# Altium integrated library Analog Devices Clock Generation and Distribution.IntLib: 120 symbols (part 11 of 18)
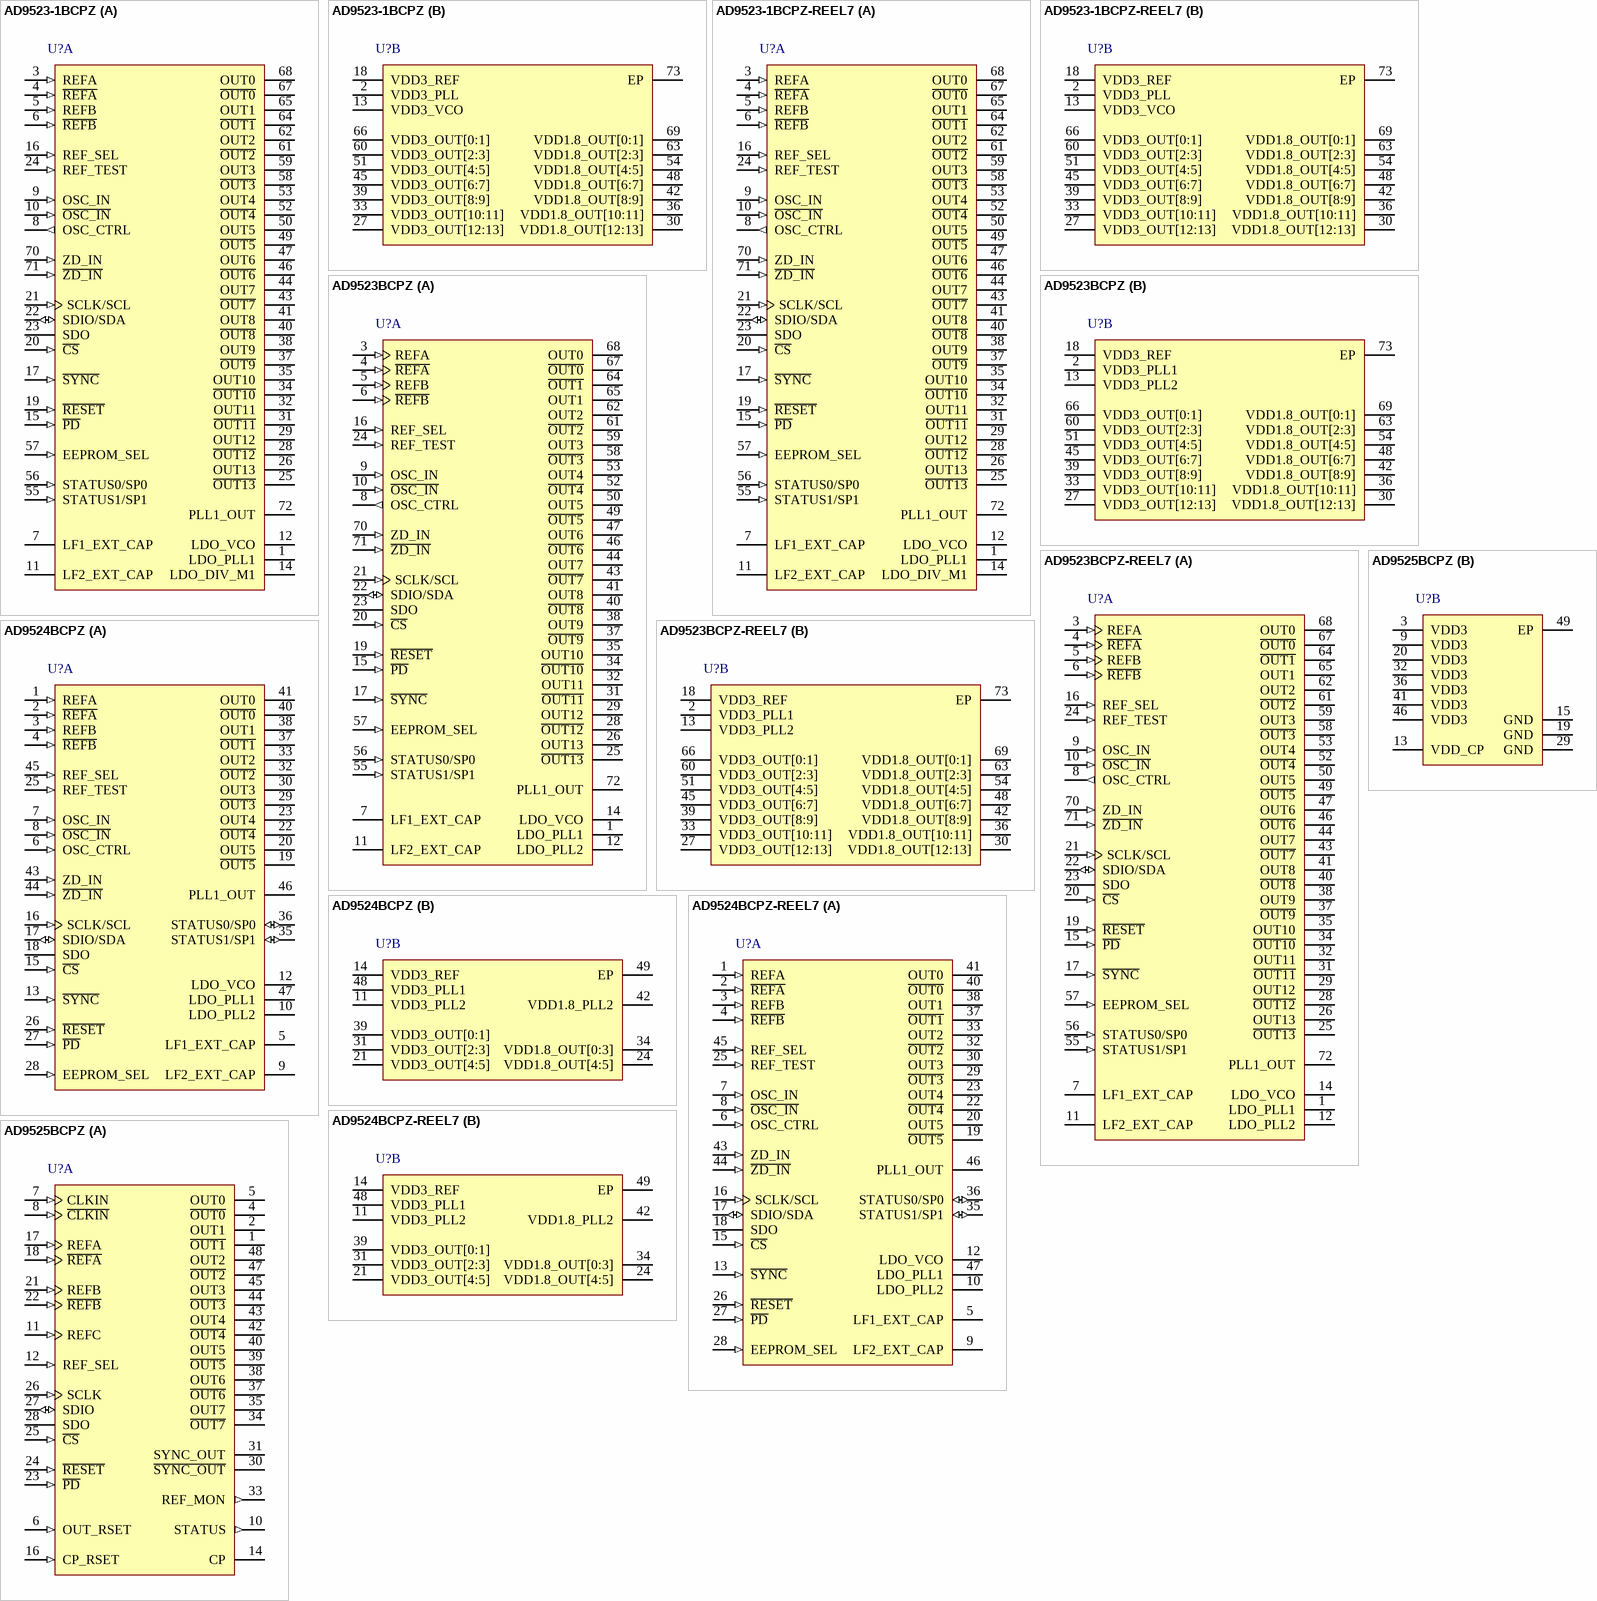
[diagram p22: symbols AD9523-1BCPZ to AD9525BCPZ]

## AD9523-1BCPZ-REEL7
designator U?
14 LVPECL / LVDS / HSTL / 29 LVCMOS Outputs, Low Jitter Clock Generator, 3.3 V Supply, Industrial, 72-pin QFN (CP-72-7), Reel; Manufacturer: Analog Devices; PartNumber: AD9523-1BCPZ-REEL7; # of Inputs: 1; # of Outputs: 29; Supply Voltage (V): 3.3; I/O Interface: Serial; Max f-out: 1 GHz; On-Chip VCO or DCO: Yes; Output Logic: LVCMOS, HSTL, LVDS, LVPECL; DatasheetVersion: Rev. B; PackageVersion: 052809-A, 09/2009; PackageReference: CP-72-7; PackageDescription: 72-Pin Lead Frame Chip Scale Package, Body 10 x 10 mm, Pitch 0.5 mm; Supplier 1: Digi-Key; Supplier Part Number 1: AD9523-1BCPZ-REEL7-ND; Supplier 2: Newark; Supplier Part Number 2: 18T2175; Supplier 3: Mouser; Supplier Part Number 3: 584-AD95231BCPZR7; Packing: Reel; Mounting Technology: Surface Mount; Code_JEDEC: MO-220-VNND-4; ComponentLink1Description: Manufacturer URL; ComponentLink1URL: http://www.analog.com/en/index.html; ComponentLink2Description: Datasheet; ComponentLink2URL: http://www.analog.com/static/imported-files/data_sheets/AD9523-1.pdf; ComponentLink3Description: Package Specification; ComponentLink3URL: http://www.analog.com/static/imported-files/packages/PKG_PDF/LFCSP(CP)/CP_72_7.pdf; ComponentLink4Description: Product URL; ComponentLink4URL: http://www.analog.com/en/clock-and-timing/clock-generation-and-distribution/ad9523-1/products/product.html
footprint ADI-CP-72-7_N (QFN, 72-Leads, Body 10x10mm, Pitch 0.5mm, Thermal Pad 6x6mm, IPC Medium Density)
footprint ADI-CP-72-7_L (QFN, 72-Leads, Body 10x10mm, Pitch 0.5mm, Thermal Pad 6x6mm, IPC High Density)
footprint ADI-CP-72-7_M (QFN, 72-Leads, Body 10x10mm, Pitch 0.5mm, Thermal Pad 6x6mm, IPC Low Density)
part A pins: 1 LDO_PLL1 "1.8 V Internal LDO Regulator Decoupling Pin for PLL1. Connect a 0.47 uF decoupling capacitor from this pin to ground. Note that for best performance, the LDO bypass capacitor must be placed in close proximity to the device.", 3 REFA (in) "Reference Clock Input A. Along with R\E\F\A\, this pin is the differential input for the PLL reference. Alternatively, this pin can be programmed as a single-ended 3.3 V CMOS input.", 4 ~{REFA} (in) "Complementary Reference Clock Input A. Along with REFA, this pin is the differential input for the PLL reference. Alternatively, this pin can be programmed as a single-ended 3.3V CMOS input.", 5 REFB (in) "Reference Clock Input B. Along with R\E\F\B\, this pin is the differential input for the PLL reference. Alternatively, this pin can be programmed as a single-ended 3.3 V CMOS input.", 6 ~{REFB} (in) "Complementary Reference Clock Input B. Along with REFB, this pin is the differential input for the PLL reference. Alternatively, this pin can be programmed as a single-ended 3.3 V CMOS input.", 7 LF1_EXT_CAP "PLL1 External Loop Filter Capacitor. Connect this pin to ground.", 8 OSC_CTRL (out) "Oscillator Control Voltage. Connect this pin to the voltage control pin of the external oscillator.", 9 OSC_IN (in) "PLL1 Oscillator Input. Along with O\S\C\_\I\N\, this pin is the differential input for the PLL reference. Alternatively, this pin can be programmed as a single-ended 3.3 V CMOS input.", 10 ~{OSC_IN} (in) "Complementary PLL1 Oscillator Input. Along with OSC_IN, this pin is the differential input for the PLL reference. Alternatively, this pin can be programmed as a single-ended 3.3 V CMOS input.", 11 LF2_EXT_CAP "PLL2 External Loop Filter Capacitor Connection. Connect capacitor to this pin and the LDO_VCO pin.", 12 LDO_VCO "2.5 V LDO Internal Regulator Decoupling Pin for VCO. Connect a 0.47 uF decoupling capacitor from this pin to ground. Note that, for best performance, the LDO bypass capacitor must be placed in close proximity to the device.", 14 LDO_DIV_M1 "1.8 V LDO Regulator Decoupling Pin for VCO Divider M1. Connect a 0.47 uF decoupling capacitor from this pin to ground. Note that, for best performance, the LDO bypass capacitor must be placed in close proximity to the device.", 15 ~{PD} (in) "Chip Power-Down, Active Low. This pin has an internal 40 K ohm pull-up resistor.", 16 REF_SEL (in) "Reference Input Select. This pin has an internal 40 K ohm pull-down resistor.", 17 ~{SYNC} (in) "Manual Synchronization. This pin initiates a manual synchronization and has an internal 40 K ohm pull-up resistor.", 19 ~{RESET} (in) "Digital Input, Active Low. Resets internal logic to default states. This pin has an internal 40 K ohm pull-up resistor.", 20 ~{CS} (in) "Serial Control Port Chip Select, Active Low. This pin has an internal 40 K ohm pull-up resistor.", 21 SCLK/SCL (in) "Serial Control Port Clock Signal for SPI Mode (SCLK) or I2C Mode (SCL). Data clock for serial program-ming. This pin has an internal 40 K ohm pull-down resistor in SPI mode but is high impedance in I2C mode.", 22 SDIO/SDA (io) "Serial Control Port Bidirectional Serial Data In/Data Out for SPI Mode (SDIO) or I2C Mode (SDA).", 23 SDO (hiz) "Serial Data Output. Use this pin to read data in 4-wire mode (high impedance in 3-wire mode). There is no internal pull-up/pull-down resistor on this pin.", 24 REF_TEST (in) "Test Input to PLL1 Phase Detector.", 25 ~{OUT13} (hiz) "Complementary Square Wave Clocking Output 13. This pin can be configured as one side of a differential LVPECL/LVDS/HSTL output or as a single-ended CMOS output.", 26 OUT13 (hiz) "Square Wave Clocking Output 13. This pin can be configured as one side of a differential LVPECL/ LVDS/HSTL output or as a single-ended CMOS output.", 28 ~{OUT12} (hiz) "Complementary Square Wave Clocking Output 12. This pin can be configured as one side of a differential LVPECL/LVDS/HSTL output or as a single-ended CMOS output.", 29 OUT12 (hiz) "Square Wave Clocking Output 12. This pin can be configured as one side of a differential LVPECL/ LVDS/HSTL output or as a single-ended CMOS output.", 31 ~{OUT11} (hiz) "Complementary Square Wave Clocking Output 11. This pin can be configured as one side of a differential LVPECL/LVDS/HSTL output or as a single-ended CMOS output.", 32 OUT11 (hiz) "Square Wave Clocking Output 11. This pin can be configured as one side of a differential LVPECL/ LVDS/HSTL output or as a single-ended CMOS output.", 34 ~{OUT10} (hiz) "Complementary Square Wave Clocking Output 10. This pin can be configured as one side of a differential LVPECL/LVDS/HSTL output or as a single-ended CMOS output.", 35 OUT10 (hiz) "Square Wave Clocking Output 10. This pin can be configured as one side of a differential LVPECL/ LVDS/HSTL output or as a single-ended CMOS output.", 37 ~{OUT9} (hiz) "Complementary Square Wave Clocking Output 9. This pin can be configured as one side of a differential LVPECL/LVDS/HSTL output or as a single-ended CMOS output.", 38 OUT9 (hiz) "Square Wave Clocking Output 9. This pin can be configured as one side of a differential LVPECL/ LVDS/HSTL output or as a single-ended CMOS output.", 40 ~{OUT8} (hiz) "Complementary Square Wave Clocking Output 8. This pin can be configured as one side of a differential LVPECL/LVDS/HSTL output or as a single-ended CMOS output.", 41 OUT8 (hiz) "Square Wave Clocking Output 8. This pin can be configured as one side of a differential LVPECL/ LVDS/HSTL output or as a single-ended CMOS output.", 43 ~{OUT7} (hiz) "Complementary Square Wave Clocking Output 7. This pin can be configured as one side of a differential LVPECL/LVDS/HSTL output or as a single-ended CMOS output.", 44 OUT7 (hiz) "Square Wave Clocking Output 7. This pin can be configured as one side of a differential LVPECL/ LVDS/HSTL output or as a single-ended CMOS output.", 46 ~{OUT6} (hiz) "Complementary Square Wave Clocking Output 6. This pin can be configured as one side of a differential LVPECL/LVDS/HSTL output or as a single-ended CMOS output.", 47 OUT6 (hiz) "Square Wave Clocking Output 6. This pin can be configured as one side of a differential LVPECL/ LVDS/HSTL output or as a single-ended CMOS output.", 49 ~{OUT5} (hiz) "Complementary Square Wave Clocking Output 5. This pin can be configured as one side of a differential LVPECL/LVDS/HSTL output or as a single-ended CMOS output.", 50 OUT5 (hiz) "Square Wave Clocking Output 5. This pin can be configured as one side of a differential LVPECL/ LVDS/HSTL output or as a single-ended CMOS output.", 52 ~{OUT4} (hiz) "Complementary Square Wave Clocking Output 4. This pin can be configured as one side of a differential LVPECL/LVDS/HSTL output or as a single-ended CMOS output.", 53 OUT4 (hiz) "Square Wave Clocking Output 4. This pin can be configured as one side of a differential LVPECL/ LVDS/HSTL output or as a single-ended CMOS output.", 55 STATUS1/SP1 (in) "Lock Detect and Other Status Signals (STATUS1)/I2C Address (SP1). This pin has an internal 40 K ohm pull-down resistor.", 56 STATUS0/SP0 (in) "Lock Detect and Other Status Signals (STATUS0)/I2C Address (SP0). This pin has an internal 40 K ohm pull-down resistor.", 57 EEPROM_SEL (in) "EEPROM Select. Setting this pin high selects the register values stored in the internal EEPROM to be loaded at reset and/or power-up. Setting this pin low causes the AD9523-1 to load the hard-coded default register values at power-up/reset. This pin has", 58 ~{OUT3} (hiz) "Complementary Square Wave Clocking Output 3. This pin can be configured as one side of a differential LVPECL/LVDS/HSTL output or as a single-ended CMOS output.", 59 OUT3 (hiz) "Square Wave Clocking Output 3. This pin can be configured as one side of a differential LVPECL/ LVDS/HSTL output or as a single-ended CMOS output.", 61 ~{OUT2} (hiz) "Complementary Square Wave Clocking Output 2. This pin can be configured as one side of a differential LVPECL/LVDS/HSTL output or as a single-ended CMOS output.", 62 OUT2 (hiz) "Square Wave Clocking Output 2. This pin can be configured as one side of a differential LVPECL/ LVDS/HSTL output or as a single-ended CMOS output.", 64 ~{OUT1} (hiz) "Complementary Square Wave Clocking Output 1. This pin can be configured as one side of a differential LVPECL/LVDS/HSTL output or as a single-ended CMOS output.", 65 OUT1 (hiz) "Square Wave Clocking Output 1. This pin can be configured as one side of a differential LVPECL/ LVDS/HSTL output or as a single-ended CMOS output.", 67 ~{OUT0} (hiz) "Complementary Square Wave Clocking Output 0. This pin can be configured as one side of a differential LVPECL/LVDS/HSTL output or as a single-ended CMOS output.", 68 OUT0 (hiz) "Square Wave Clocking Output 0. This pin can be configured as one side of a differential LVPECL/ LVDS/HSTL output or as a single-ended CMOS output.", 70 ZD_IN (in) "External Zero Delay Clock Input. Along with Z\D\_\I\N\, this pin is the differential input for the PLL reference. Alternatively, this pin can be programmed as a single-ended 3.3 V CMOS input.", 71 ~{ZD_IN} (in) "Complementary External Zero Delay Clock Input. Along with ZD_IN, this pin is the differential input for the PLL reference. Alternatively, this pin can be programmed as a single-ended 3.3 V CMOS input.", 72 PLL1_OUT (hiz) "Single-Ended CMOS Output from PLL1. This pin has settings for weak and strong in Register 0x1BA, Bit 4 (see Table 52)."
part B pins: 2 VDD3_PLL (power) "3.3 V Supply PLL1 and PLL2. Use the same supply as VCXO.", 13 VDD3_VCO (power) "3.3 V Supply for VCO and VCO M1 Divider.", 18 VDD3_REF (power) "3.3 V Supply for Output Clock Drivers Reference and VCO Divider M2.", 27 VDD3_OUT[12:13] (power) "3.3 V Supply for Output 12 and Output 13 Clock Drivers.", 30 VDD1.8_OUT[12:13] (power) "1.8 V Supply for Output 12 and Output 13 Clock Dividers.", 33 VDD3_OUT[10:11] (power) "3.3 V Supply for Output 10 and Output 11 Clock Drivers.", 36 VDD1.8_OUT[10:11] (power) "1.8 V Supply for Output 10 and Output 11 Clock Dividers.", 39 VDD3_OUT[8:9] (power) "3.3 V Supply for Output 8 and Output 9 Clock Drivers.", 42 VDD1.8_OUT[8:9] (power) "1.8 V Supply for Output 8 and Output 9 Clock Dividers.", 45 VDD3_OUT[6:7] (power) "3.3 V Supply for Output 6 and Supply Output 7 Clock Drivers.", 48 VDD1.8_OUT[6:7] (power) "1.8 V Supply for Output 6 and Output 7 Clock Dividers.", 51 VDD3_OUT[4:5] (power) "3.3 V Supply for Output 4 and Output 5 Clock Drivers.", 54 VDD1.8_OUT[4:5] (power) "1.8 V Supply for Output 4 and Output 5 Clock Dividers.", 60 VDD3_OUT[2:3] (power) "3.3 V Supply for Output 2 and Output 3 Clock Drivers.", 63 VDD1.8_OUT[2:3] (power) "1.8 V Supply for Output 2 and Output 3 Clock Dividers.", 66 VDD3_OUT[0:1] (power) "3.3 V Supply for Output 0 and Output 1 Clock Drivers.", 69 VDD1.8_OUT[0:1] (power) "1.8 V Supply for Output 0 and Output 1 Clock Dividers.", 73 EP (power) "Exposed Paddle. The exposed paddle is the ground connection on the chip. It must be soldered to the analog ground of the PCB to ensure proper functionality and heat dissipation, noise, and mechanical strength benefits."

## AD9523BCPZ
designator U?
14 Differential / 29 LVCMOS Outputs, Low Jitter Clock Generator, 3.3 V Supply, Industrial, 72-pin QFN (CP-72-6), Tray; Manufacturer: Analog Devices; PartNumber: AD9523BCPZ; # of Inputs: 1; # of Outputs: 29; Supply Voltage (V): 3.3; I/O Interface: Serial; Max f-out: 1 GHz; On-Chip VCO or DCO: Yes; Output Logic: LVCMOS, HSTL, LVDS, LVPECL; DatasheetVersion: Rev. B; PackageVersion: 052709-B, 05/2009; PackageReference: CP-72-6; PackageDescription: 72-Pin Lead Frame Chip Scale Package, Body 10 x 10 mm, Pitch 0.5 mm; Supplier 1: Digi-Key; Supplier Part Number 1: AD9523BCPZ-ND; Supplier 2: Mouser; Supplier Part Number 2: 584-AD9523BCPZ; Packing: Tray; Mounting Technology: Surface Mount; Code_JEDEC: MO-220-VNND-4; ComponentLink1Description: Manufacturer URL; ComponentLink1URL: http://www.analog.com/en/index.html; ComponentLink2Description: Datasheet; ComponentLink2URL: http://www.analog.com/static/imported-files/data_sheets/AD9523.pdf; ComponentLink3Description: Package Specification; ComponentLink3URL: http:/www.analog.com/static/imported-files/packages/PKG_PDF/LFCSP(CP)/CP_72_6.pdf; ComponentLink4Description: Product URL; ComponentLink4URL: http://www.analog.com/en/clock-and-timing/clock-generation-and-distribution/ad9523/products/product.html
footprint ADI-CP-72-6_N (QFN, 72-Leads, Body 10x10mm, Pitch 0.5mm, Thermal Pad 5.3x5.3mm, IPC Medium Density)
footprint ADI-CP-72-6_L (QFN, 72-Leads, Body 10x10mm, Pitch 0.5mm, Thermal Pad 5.3x5.3mm, IPC High Density)
footprint ADI-CP-72-6_M (QFN, 72-Leads, Body 10x10mm, Pitch 0.5mm, Thermal Pad 5.3x5.3mm, IPC Low Density)
part A pins: 1 LDO_PLL1 "1.8 V Internal LDO Regulator Decoupling Pin for PLL1. Connect a 0.47 uF decoupling capacitor from this pin to ground. Note that, for best performance, the LDO bypass capacitor must be placed in close proximity to the device.", 3 REFA (in) "Reference Clock Input A. Along with R\E\F\A\, this pin is the differential input for the PLL reference. Alternatively, this pin can be programmed as a single-ended 3.3 V CMOS input.", 4 ~{REFA} (in) "Complementary Reference Clock Input A. Along with REFA, this pin is the differential input for the PLL reference. Alternatively, this pin can be programmed as a single-ended 3.3V CMOS input.", 5 REFB (in) "Reference Clock Input B. Along with REFB, this pin is the differential input for the PLL reference. Alternatively, this pin can be programmed as a single-ended 3.3 V CMOS input.", 6 ~{REFB} (in) "Complementary Reference Clock Input B. Along with R\E\F\B\, this pin is the differential input for the PLL reference. Alternatively, this pin can be programmed as a single-ended 3.3 V CMOS input.", 7 LF1_EXT_CAP "PLL1 External Loop Filter Capacitor. Connect this pin to ground.", 8 OSC_CTRL (out) "Oscillator Control Voltage. Connect this pin to the voltage control pin of the external oscillator.", 9 OSC_IN (in) "PLL1 Oscillator Input. Along with O\S\C\_\I\N\, this pin is the differential input for the PLL reference. Alternatively, this pin can be programmed as a single-ended 3.3 V CMOS input.", 10 ~{OSC_IN} (in) "Complementary PLL1 Oscillator Input. Along with OSC_IN, this pin is the differential input for the PLL reference. Alternatively, this pin can be programmed as a single-ended 3.3 V CMOS input.", 11 LF2_EXT_CAP "PLL2 External Loop Filter Capacitor Connection. Connect capacitor to this pin and the LDO_VCO pin.", 12 LDO_PLL2 "LDO Decoupling Pin for PLL2 1.8 V Internal Regulator. Connect a 0.47 uF decoupling capacitor from this pin to ground. Note that for best performance, the LDO bypass capacitor must be placed in close proximity to the device.", 14 LDO_VCO "2.5 V LDO Internal Regulator Decoupling Pin for VCO. Connect a 0.47 uF decoupling capacitor from this pin to ground. Note that, for best performance, the LDO bypass capacitor must be placed in close proximity to the device.", 15 ~{PD} (in) "Chip Power-Down, Active Low. This pin has an internal 40 K ohm pull-up resistor.", 16 REF_SEL (in) "Reference Input Select. This pin has an internal 40 K ohm pull-down resistor.", 17 ~{SYNC} (in) "Manual Synchronization. This pin initiates a manual synchronization and has an internal 40 K ohm pull-up resistor.", 19 ~{RESET} (in) "Digital Input, Active Low. Resets internal logic to default states. This pin has an internal 40 K ohm pull-up resistor.", 20 ~{CS} (in) "Serial Control Port Chip Select, Active Low. This pin has an internal 40 K ohm pull-up resistor.", 21 SCLK/SCL (in) "Serial Control Port Clock Signal for SPI Mode (SCLK) or I2C Mode (SCL). Data clock for serial program-ming. This pin has an internal 40 K ohm pull-down resistor in SPI mode but is high impedance in I2C mode.", 22 SDIO/SDA (io) "Serial Control Port Bidirectional Serial Data In/Data Out for SPI Mode (SDIO) or I2C Mode (SDA).", 23 SDO (hiz) "Serial Data Output. Use this pin to read data in 4-wire mode (high impedance in 3-wire mode). There is no internal pull-up/pull-down resistor on this pin.", 24 REF_TEST (in) "Test Input to PLL1 Phase Detector.", 25 ~{OUT13} (hiz) "Complementary Square Wave Clocking Output 13. This pin can be configured as one side of a differential LVPECL/LVDS/HSTL output or as a single-ended CMOS output.", 26 OUT13 (hiz) "Square Wave Clocking Output 13. This pin can be configured as one side of a differential LVPECL/ LVDS/HSTL output or as a single-ended CMOS output.", 28 ~{OUT12} (hiz) "Complementary Square Wave Clocking Output 12. This pin can be configured as one side of a differential LVPECL/LVDS/HSTL output or as a single-ended CMOS output.", 29 OUT12 (hiz) "Square Wave Clocking Output 12. This pin can be configured as one side of a differential LVPECL/ LVDS/HSTL output or as a single-ended CMOS output.", 31 ~{OUT11} (hiz) "Complementary Square Wave Clocking Output 11. This pin can be configured as one side of a differential LVPECL/LVDS/HSTL output or as a single-ended CMOS output.", 32 OUT11 (hiz) "Square Wave Clocking Output 11. This pin can be configured as one side of a differential LVPECL/ LVDS/HSTL output or as a single-ended CMOS output.", 34 ~{OUT10} (hiz) "Complementary Square Wave Clocking Output 10. This pin can be configured as one side of a differential LVPECL/LVDS/HSTL output or as a single-ended CMOS output.", 35 OUT10 (hiz) "Square Wave Clocking Output 10. This pin can be configured as one side of a differential LVPECL/ LVDS/HSTL output or as a single-ended CMOS output.", 37 ~{OUT9} (hiz) "Complementary Square Wave Clocking Output 9. This pin can be configured as one side of a differential LVPECL/LVDS/HSTL output or as a single-ended CMOS output.", 38 OUT9 (hiz) "Square Wave Clocking Output 9. This pin can be configured as one side of a differential LVPECL/ LVDS/HSTL output or as a single-ended CMOS output.", 40 ~{OUT8} (hiz) "Complementary Square Wave Clocking Output 8. This pin can be configured as one side of a differential LVPECL/LVDS/HSTL output or as a single-ended CMOS output.", 41 OUT8 (hiz) "Square Wave Clocking Output 8. This pin can be configured as one side of a differential LVPECL/ LVDS/HSTL output or as a single-ended CMOS output.", 43 ~{OUT7} (hiz) "Complementary Square Wave Clocking Output 7. This pin can be configured as one side of a differential LVPECL/LVDS/HSTL output or as a single-ended CMOS output.", 44 OUT7 (hiz) "Square Wave Clocking Output 7. This pin can be configured as one side of a differential LVPECL/ LVDS/HSTL output or as a single-ended CMOS output.", 46 ~{OUT6} (hiz) "Complementary Square Wave Clocking Output 6. This pin can be configured as one side of a differential LVPECL/LVDS/HSTL output or as a single-ended CMOS output.", 47 OUT6 (hiz) "Square Wave Clocking Output 6. This pin can be configured as one side of a differential LVPECL/ LVDS/HSTL output or as a single-ended CMOS output.", 49 ~{OUT5} (hiz) "Complementary Square Wave Clocking Output 5. This pin can be configured as one side of a differential LVPECL/LVDS/HSTL output or as a single-ended CMOS output.", 50 OUT5 (hiz) "Square Wave Clocking Output 5. This pin can be configured as one side of a differential LVPECL/ LVDS/HSTL output or as a single-ended CMOS output.", 52 ~{OUT4} (hiz) "Complementary Square Wave Clocking Output 4. This pin can be configured as one side of a differential LVPECL/LVDS/HSTL output or as a single-ended CMOS output.", 53 OUT4 (hiz) "Square Wave Clocking Output 4. This pin can be configured as one side of a differential LVPECL/ LVDS/HSTL output or as a single-ended CMOS output.", 55 STATUS1/SP1 (in) "Lock Detect and Other Status Signals (STATUS1)/I2C Address (SP1). This pin has an internal 40 K ohm pull-down resistor.", 56 STATUS0/SP0 (in) "Lock Detect and Other Status Signals (STATUS0)/I2C Address (SP0). This pin has an internal 40 K ohm pull-down resistor.", 57 EEPROM_SEL (in) "EEPROM Select. Setting this pin high selects the register values stored in the internal EEPROM to be loaded at reset and/or power-up. Setting this pin low causes the AD9523 to load the hard-coded default register values at power-up/reset. This pin has an", 58 ~{OUT3} (hiz) "Complementary Square Wave Clocking Output 3. This pin can be configured as one side of a differential LVPECL/LVDS/HSTL output or as a single-ended CMOS output.", 59 OUT3 (hiz) "Square Wave Clocking Output 3. This pin can be configured as one side of a differential LVPECL/ LVDS/HSTL output or as a single-ended CMOS output.", 61 ~{OUT2} (hiz) "Complementary Square Wave Clocking Output 2. This pin can be configured as one side of a differential LVPECL/LVDS/HSTL output or as a single-ended CMOS output.", 62 OUT2 (hiz) "Square Wave Clocking Output 2. This pin can be configured as one side of a differential LVPECL/ LVDS/HSTL output or as a single-ended CMOS output.", 64 ~{OUT1} (hiz) "Complementary Square Wave Clocking Output 1. This pin can be configured as one side of a differential LVPECL/LVDS/HSTL output or as a single-ended CMOS output.", 65 OUT1 (hiz) "Square Wave Clocking Output 1. This pin can be configured as one side of a differential LVPECL/ LVDS/HSTL output or as a single-ended CMOS output.", 67 ~{OUT0} (hiz) "Complementary Square Wave Clocking Output 0. This pin can be configured as one side of a differential LVPECL/LVDS/HSTL output or as a single-ended CMOS output.", 68 OUT0 (hiz) "Square Wave Clocking Output 0. This pin can be configured as one side of a differential LVPECL/ LVDS/HSTL output or as a single-ended CMOS output.", 70 ZD_IN (in) "External Zero Delay Clock Input. Along with Z\D\_\I\N\, this pin is the differential input for the PLL reference. Alternatively, this pin can be programmed as a single-ended 3.3 V CMOS input.", 71 ~{ZD_IN} (in) "Complementary External Zero Delay Clock Input. Along with ZD_IN, this pin is the differential input for the PLL reference. Alternatively, this pin can be programmed as a single-ended 3.3 V CMOS input.", 72 PLL1_OUT (hiz) "Single-Ended CMOS Output from PLL1. This pin has settings for weak and strong in Register 0x1BA, Bit 4 (see Table 51)."
part B pins: 2 VDD3_PLL1 (power) "3.3 V Supply PLL1. Use the same supply as VCXO.", 13 VDD3_PLL2 (power) "3.3 V Supply for PLL2.", 18 VDD3_REF (power) "3.3 V Supply for Output Clock Drivers Reference.", 27 VDD3_OUT[12:13] (power) "3.3 V Supply for Output 12 and Output 13 Clock Drivers.", 30 VDD1.8_OUT[12:13] (power) "1.8 V Supply for Output 12 and Output 13 Clock Dividers.", 33 VDD3_OUT[10:11] (power) "3.3 V Supply for Output 10 and Output 11 Clock Drivers.", 36 VDD1.8_OUT[10:11] (power) "1.8 V Supply for Output 10 and Output 11 Clock Dividers.", 39 VDD3_OUT[8:9] (power) "3.3 V Supply for Output 8 and Output 9 Clock Drivers.", 42 VDD1.8_OUT[8:9] (power) "1.8 V Supply for Output 8 and Output 9 Clock Dividers.", 45 VDD3_OUT[6:7] (power) "3.3 V Supply for Output 6 and Supply Output 7 Clock Drivers.", 48 VDD1.8_OUT[6:7] (power) "1.8 V Supply for Output 6 and Output 7 Clock Dividers.", 51 VDD3_OUT[4:5] (power) "3.3 V Supply for Output 4 and Output 5 Clock Drivers.", 54 VDD1.8_OUT[4:5] (power) "1.8 V Supply for Output 4 and Output 5 Clock Dividers.", 60 VDD3_OUT[2:3] (power) "3.3 V Supply for Output 2 and Output 3 Clock Drivers.", 63 VDD1.8_OUT[2:3] (power) "1.8 V Supply for Output 0, Output 1, Output 2, and Output 3 Clock Dividers.", 66 VDD3_OUT[0:1] (power) "3.3 V Supply for Output 0 and Output 1 Clock Drivers.", 69 VDD1.8_OUT[0:1] (power) "1.8 V Supply for PLL2.", 73 EP (power) "Exposed Paddle. The exposed paddle is the ground connection on the chip. It must be soldered to the analog ground of the PCB to ensure proper functionality and heat dissipation, noise, and mechanical strength benefits."

## AD9523BCPZ-REEL7
designator U?
14 Differential / 29 LVCMOS Outputs, Low Jitter Clock Generator, 3.3 V Supply, Industrial, 72-pin QFN (CP-72-6), Reel; Manufacturer: Analog Devices; PartNumber: AD9523BCPZ-REEL7; # of Inputs: 1; # of Outputs: 29; Supply Voltage (V): 3.3; I/O Interface: Serial; Max f-out: 1 GHz; On-Chip VCO or DCO: Yes; Output Logic: LVCMOS, HSTL, LVDS, LVPECL; DatasheetVersion: Rev. B; PackageVersion: 052709-B, 05/2009; PackageReference: CP-72-6; PackageDescription: 72-Pin Lead Frame Chip Scale Package, Body 10 x 10 mm, Pitch 0.5 mm; Supplier 1: Digi-Key; Supplier Part Number 1: AD9523BCPZ-REEL7-ND; Supplier 2: Newark; Supplier Part Number 2: 79R2353; Supplier 3: Mouser; Supplier Part Number 3: 584-AD9523BCPZ-R7; Packing: Reel; Mounting Technology: Surface Mount; Code_JEDEC: MO-220-VNND-4; ComponentLink1Description: Manufacturer URL; ComponentLink1URL: http://www.analog.com/en/index.html; ComponentLink2Description: Datasheet; ComponentLink2URL: http://www.analog.com/static/imported-files/data_sheets/AD9523.pdf; ComponentLink3Description: Package Specification; ComponentLink3URL: http:/www.analog.com/static/imported-files/packages/PKG_PDF/LFCSP(CP)/CP_72_6.pdf; ComponentLink4Description: Product URL; ComponentLink4URL: http://www.analog.com/en/clock-and-timing/clock-generation-and-distribution/ad9523/products/product.html
footprint ADI-CP-72-6_N (QFN, 72-Leads, Body 10x10mm, Pitch 0.5mm, Thermal Pad 5.3x5.3mm, IPC Medium Density)
footprint ADI-CP-72-6_L (QFN, 72-Leads, Body 10x10mm, Pitch 0.5mm, Thermal Pad 5.3x5.3mm, IPC High Density)
footprint ADI-CP-72-6_M (QFN, 72-Leads, Body 10x10mm, Pitch 0.5mm, Thermal Pad 5.3x5.3mm, IPC Low Density)
part A pins: 1 LDO_PLL1 "1.8 V Internal LDO Regulator Decoupling Pin for PLL1. Connect a 0.47 uF decoupling capacitor from this pin to ground. Note that, for best performance, the LDO bypass capacitor must be placed in close proximity to the device.", 3 REFA (in) "Reference Clock Input A. Along with R\E\F\A\, this pin is the differential input for the PLL reference. Alternatively, this pin can be programmed as a single-ended 3.3 V CMOS input.", 4 ~{REFA} (in) "Complementary Reference Clock Input A. Along with REFA, this pin is the differential input for the PLL reference. Alternatively, this pin can be programmed as a single-ended 3.3V CMOS input.", 5 REFB (in) "Reference Clock Input B. Along with REFB, this pin is the differential input for the PLL reference. Alternatively, this pin can be programmed as a single-ended 3.3 V CMOS input.", 6 ~{REFB} (in) "Complementary Reference Clock Input B. Along with R\E\F\B\, this pin is the differential input for the PLL reference. Alternatively, this pin can be programmed as a single-ended 3.3 V CMOS input.", 7 LF1_EXT_CAP "PLL1 External Loop Filter Capacitor. Connect this pin to ground.", 8 OSC_CTRL (out) "Oscillator Control Voltage. Connect this pin to the voltage control pin of the external oscillator.", 9 OSC_IN (in) "PLL1 Oscillator Input. Along with O\S\C\_\I\N\, this pin is the differential input for the PLL reference. Alternatively, this pin can be programmed as a single-ended 3.3 V CMOS input.", 10 ~{OSC_IN} (in) "Complementary PLL1 Oscillator Input. Along with OSC_IN, this pin is the differential input for the PLL reference. Alternatively, this pin can be programmed as a single-ended 3.3 V CMOS input.", 11 LF2_EXT_CAP "PLL2 External Loop Filter Capacitor Connection. Connect capacitor to this pin and the LDO_VCO pin.", 12 LDO_PLL2 "LDO Decoupling Pin for PLL2 1.8 V Internal Regulator. Connect a 0.47 uF decoupling capacitor from this pin to ground. Note that for best performance, the LDO bypass capacitor must be placed in close proximity to the device.", 14 LDO_VCO "2.5 V LDO Internal Regulator Decoupling Pin for VCO. Connect a 0.47 uF decoupling capacitor from this pin to ground. Note that, for best performance, the LDO bypass capacitor must be placed in close proximity to the device.", 15 ~{PD} (in) "Chip Power-Down, Active Low. This pin has an internal 40 K ohm pull-up resistor.", 16 REF_SEL (in) "Reference Input Select. This pin has an internal 40 K ohm pull-down resistor.", 17 ~{SYNC} (in) "Manual Synchronization. This pin initiates a manual synchronization and has an internal 40 K ohm pull-up resistor.", 19 ~{RESET} (in) "Digital Input, Active Low. Resets internal logic to default states. This pin has an internal 40 K ohm pull-up resistor.", 20 ~{CS} (in) "Serial Control Port Chip Select, Active Low. This pin has an internal 40 K ohm pull-up resistor.", 21 SCLK/SCL (in) "Serial Control Port Clock Signal for SPI Mode (SCLK) or I2C Mode (SCL). Data clock for serial program-ming. This pin has an internal 40 K ohm pull-down resistor in SPI mode but is high impedance in I2C mode.", 22 SDIO/SDA (io) "Serial Control Port Bidirectional Serial Data In/Data Out for SPI Mode (SDIO) or I2C Mode (SDA).", 23 SDO (hiz) "Serial Data Output. Use this pin to read data in 4-wire mode (high impedance in 3-wire mode). There is no internal pull-up/pull-down resistor on this pin.", 24 REF_TEST (in) "Test Input to PLL1 Phase Detector.", 25 ~{OUT13} (hiz) "Complementary Square Wave Clocking Output 13. This pin can be configured as one side of a differential LVPECL/LVDS/HSTL output or as a single-ended CMOS output.", 26 OUT13 (hiz) "Square Wave Clocking Output 13. This pin can be configured as one side of a differential LVPECL/ LVDS/HSTL output or as a single-ended CMOS output.", 28 ~{OUT12} (hiz) "Complementary Square Wave Clocking Output 12. This pin can be configured as one side of a differential LVPECL/LVDS/HSTL output or as a single-ended CMOS output.", 29 OUT12 (hiz) "Square Wave Clocking Output 12. This pin can be configured as one side of a differential LVPECL/ LVDS/HSTL output or as a single-ended CMOS output.", 31 ~{OUT11} (hiz) "Complementary Square Wave Clocking Output 11. This pin can be configured as one side of a differential LVPECL/LVDS/HSTL output or as a single-ended CMOS output.", 32 OUT11 (hiz) "Square Wave Clocking Output 11. This pin can be configured as one side of a differential LVPECL/ LVDS/HSTL output or as a single-ended CMOS output.", 34 ~{OUT10} (hiz) "Complementary Square Wave Clocking Output 10. This pin can be configured as one side of a differential LVPECL/LVDS/HSTL output or as a single-ended CMOS output.", 35 OUT10 (hiz) "Square Wave Clocking Output 10. This pin can be configured as one side of a differential LVPECL/ LVDS/HSTL output or as a single-ended CMOS output.", 37 ~{OUT9} (hiz) "Complementary Square Wave Clocking Output 9. This pin can be configured as one side of a differential LVPECL/LVDS/HSTL output or as a single-ended CMOS output.", 38 OUT9 (hiz) "Square Wave Clocking Output 9. This pin can be configured as one side of a differential LVPECL/ LVDS/HSTL output or as a single-ended CMOS output.", 40 ~{OUT8} (hiz) "Complementary Square Wave Clocking Output 8. This pin can be configured as one side of a differential LVPECL/LVDS/HSTL output or as a single-ended CMOS output.", 41 OUT8 (hiz) "Square Wave Clocking Output 8. This pin can be configured as one side of a differential LVPECL/ LVDS/HSTL output or as a single-ended CMOS output.", 43 ~{OUT7} (hiz) "Complementary Square Wave Clocking Output 7. This pin can be configured as one side of a differential LVPECL/LVDS/HSTL output or as a single-ended CMOS output.", 44 OUT7 (hiz) "Square Wave Clocking Output 7. This pin can be configured as one side of a differential LVPECL/ LVDS/HSTL output or as a single-ended CMOS output.", 46 ~{OUT6} (hiz) "Complementary Square Wave Clocking Output 6. This pin can be configured as one side of a differential LVPECL/LVDS/HSTL output or as a single-ended CMOS output.", 47 OUT6 (hiz) "Square Wave Clocking Output 6. This pin can be configured as one side of a differential LVPECL/ LVDS/HSTL output or as a single-ended CMOS output.", 49 ~{OUT5} (hiz) "Complementary Square Wave Clocking Output 5. This pin can be configured as one side of a differential LVPECL/LVDS/HSTL output or as a single-ended CMOS output.", 50 OUT5 (hiz) "Square Wave Clocking Output 5. This pin can be configured as one side of a differential LVPECL/ LVDS/HSTL output or as a single-ended CMOS output.", 52 ~{OUT4} (hiz) "Complementary Square Wave Clocking Output 4. This pin can be configured as one side of a differential LVPECL/LVDS/HSTL output or as a single-ended CMOS output.", 53 OUT4 (hiz) "Square Wave Clocking Output 4. This pin can be configured as one side of a differential LVPECL/ LVDS/HSTL output or as a single-ended CMOS output.", 55 STATUS1/SP1 (in) "Lock Detect and Other Status Signals (STATUS1)/I2C Address (SP1). This pin has an internal 40 K ohm pull-down resistor.", 56 STATUS0/SP0 (in) "Lock Detect and Other Status Signals (STATUS0)/I2C Address (SP0). This pin has an internal 40 K ohm pull-down resistor.", 57 EEPROM_SEL (in) "EEPROM Select. Setting this pin high selects the register values stored in the internal EEPROM to be loaded at reset and/or power-up. Setting this pin low causes the AD9523 to load the hard-coded default register values at power-up/reset. This pin has an", 58 ~{OUT3} (hiz) "Complementary Square Wave Clocking Output 3. This pin can be configured as one side of a differential LVPECL/LVDS/HSTL output or as a single-ended CMOS output.", 59 OUT3 (hiz) "Square Wave Clocking Output 3. This pin can be configured as one side of a differential LVPECL/ LVDS/HSTL output or as a single-ended CMOS output.", 61 ~{OUT2} (hiz) "Complementary Square Wave Clocking Output 2. This pin can be configured as one side of a differential LVPECL/LVDS/HSTL output or as a single-ended CMOS output.", 62 OUT2 (hiz) "Square Wave Clocking Output 2. This pin can be configured as one side of a differential LVPECL/ LVDS/HSTL output or as a single-ended CMOS output.", 64 ~{OUT1} (hiz) "Complementary Square Wave Clocking Output 1. This pin can be configured as one side of a differential LVPECL/LVDS/HSTL output or as a single-ended CMOS output.", 65 OUT1 (hiz) "Square Wave Clocking Output 1. This pin can be configured as one side of a differential LVPECL/ LVDS/HSTL output or as a single-ended CMOS output.", 67 ~{OUT0} (hiz) "Complementary Square Wave Clocking Output 0. This pin can be configured as one side of a differential LVPECL/LVDS/HSTL output or as a single-ended CMOS output.", 68 OUT0 (hiz) "Square Wave Clocking Output 0. This pin can be configured as one side of a differential LVPECL/ LVDS/HSTL output or as a single-ended CMOS output.", 70 ZD_IN (in) "External Zero Delay Clock Input. Along with Z\D\_\I\N\, this pin is the differential input for the PLL reference. Alternatively, this pin can be programmed as a single-ended 3.3 V CMOS input.", 71 ~{ZD_IN} (in) "Complementary External Zero Delay Clock Input. Along with ZD_IN, this pin is the differential input for the PLL reference. Alternatively, this pin can be programmed as a single-ended 3.3 V CMOS input.", 72 PLL1_OUT (hiz) "Single-Ended CMOS Output from PLL1. This pin has settings for weak and strong in Register 0x1BA, Bit 4 (see Table 51)."
part B pins: 2 VDD3_PLL1 (power) "3.3 V Supply PLL1. Use the same supply as VCXO.", 13 VDD3_PLL2 (power) "3.3 V Supply for PLL2.", 18 VDD3_REF (power) "3.3 V Supply for Output Clock Drivers Reference.", 27 VDD3_OUT[12:13] (power) "3.3 V Supply for Output 12 and Output 13 Clock Drivers.", 30 VDD1.8_OUT[12:13] (power) "1.8 V Supply for Output 12 and Output 13 Clock Dividers.", 33 VDD3_OUT[10:11] (power) "3.3 V Supply for Output 10 and Output 11 Clock Drivers.", 36 VDD1.8_OUT[10:11] (power) "1.8 V Supply for Output 10 and Output 11 Clock Dividers.", 39 VDD3_OUT[8:9] (power) "3.3 V Supply for Output 8 and Output 9 Clock Drivers.", 42 VDD1.8_OUT[8:9] (power) "1.8 V Supply for Output 8 and Output 9 Clock Dividers.", 45 VDD3_OUT[6:7] (power) "3.3 V Supply for Output 6 and Supply Output 7 Clock Drivers.", 48 VDD1.8_OUT[6:7] (power) "1.8 V Supply for Output 6 and Output 7 Clock Dividers.", 51 VDD3_OUT[4:5] (power) "3.3 V Supply for Output 4 and Output 5 Clock Drivers.", 54 VDD1.8_OUT[4:5] (power) "1.8 V Supply for Output 4 and Output 5 Clock Dividers.", 60 VDD3_OUT[2:3] (power) "3.3 V Supply for Output 2 and Output 3 Clock Drivers.", 63 VDD1.8_OUT[2:3] (power) "1.8 V Supply for Output 0, Output 1, Output 2, and Output 3 Clock Dividers.", 66 VDD3_OUT[0:1] (power) "3.3 V Supply for Output 0 and Output 1 Clock Drivers.", 69 VDD1.8_OUT[0:1] (power) "1.8 V Supply for PLL2.", 73 EP (power) "Exposed Paddle. The exposed paddle is the ground connection on the chip. It must be soldered to the analog ground of the PCB to ensure proper functionality and heat dissipation, noise, and mechanical strength benefits."

## AD9524BCPZ
designator U?
6 Differential / 13 LVCMOS Outputs, Dual Loop Clock Generator, 3.3 V Supply, Industrial, 48-pin QFN (CP-48-1), Tray; Manufacturer: Analog Devices; PartNumber: AD9524BCPZ; # of Inputs: 1; # of Outputs: 13; Supply Voltage (V): 3.3; I/O Interface: Serial; Max f-out: 1 GHz; On-Chip VCO or DCO: Yes; Output Logic: LVCMOS, HSTL, LVDS, LVPECL; DatasheetVersion: Rev. C; PackageReference: CP-48-1; PackageDescription: 48-Pin Lead Frame Chip Scale Package, Body 7 x 7 mm, Pitch 0.5 mm; Supplier 1: Digi-Key; Supplier Part Number 1: AD9524BCPZ-ND; Supplier 2: Farnell; Supplier Part Number 2: 2312994; Supplier 3: Newark; Supplier Part Number 3: 79R2355; Supplier 4: Mouser; Supplier Part Number 4: 584-AD9524BCPZ; Packing: Tray; Mounting Technology: Surface Mount; Code_JEDEC: MO-220-VKKD-2; ComponentLink1Description: Manufacturer URL; ComponentLink1URL: http://www.analog.com/en/index.html; ComponentLink2Description: Datasheet; ComponentLink2URL: http://www.analog.com/static/imported-files/data_sheets/AD9524.pdf; ComponentLink3Description: Package Specification; ComponentLink3URL: http:/www.analog.com/static/imported-files/packages/PKG_PDF/LFCSP(CP)/CP-48/CP_48_1.pdf; ComponentLink4Description: Product URL; ComponentLink4URL: http://www.analog.com/en/clock-and-timing/clock-generation-and-distribution/ad9524/products/product.html
footprint ADI-CP-48-1_N (QFN, 48-Leads, Body 7x7mm, Pitch 0.5mm, IPC Medium Density)
footprint ADI-CP-48-1_L (QFN, 48-Leads, Body 7x7mm, Pitch 0.5mm, IPC High Density)
footprint ADI-CP-48-1_M (QFN, 48-Leads, Body 7x7mm, Pitch 0.5mm, IPC Low Density)
part A pins: 1 REFA (in) "Reference Clock Input A. Along with R\E\F\A\, this pin is the differential input for the PLL reference. Alternatively, this pin can be programmed as a single-ended 3.3 V CMOS input.", 2 ~{REFA} (in) "Complementary Reference Clock Input A. Along with REFA, this pin is the differential input for the PLL reference. Alternatively, this pin can be programmed as a single-ended 3.3V CMOS input.", 3 REFB (in) "Reference Clock Input B. Along with R\E\F\B\,this pin is the differential input for the PLL reference. Alternatively, this pin can be programmed as a single-ended 3.3 V CMOS input.", 4 ~{REFB} (in) "Complementary Reference Clock Input B. Along with REFB, this pin is the differential input for the PLL reference. Alternatively, this pin can be programmed as a single-ended 3.3 V CMOS input.", 5 LF1_EXT_CAP "PLL1 External Loop Filter Capacitor. Connect this pin to ground.", 6 OSC_CTRL (in) "Oscillator Control Voltage. Connect to the voltage control pin of the external oscillator.", 7 OSC_IN (in) "PLL1 Oscillator Input. Along with O\S\C\_\I\N\, this pin is the differential input for the PLL reference. Alternatively, this pin can be programmed as a single-ended 3.3 V CMOS input.", 8 ~{OSC_IN} (in) "Complementary PLL1 Oscillator Input. Along with OSC_IN, this pin is the differential input for the PLL reference. Alternatively, this pin can be programmed as a single-ended 3.3 V CMOS input.", 9 LF2_EXT_CAP "PLL2 External Loop Filter Capacitor. Connect this pin to the LDO_VCO pin.", 10 LDO_PLL2 "LDO Decoupling Pin for PLL2 1.8 V Internal Regulator. Connect a 0.47 uF decoupling capacitor from this pin to ground. Note that for best performance, the LDO bypass capacitor must be placed in close proximity to the device.", 12 LDO_VCO "2.5 V LDO Internal Regulator Decoupling Pin for VCO. Connect a 0.47 uF decoupling capacitor from this pin to ground. Note that, for best performance, the LDO bypass capacitor must be placed in close proximity to the device.", 13 ~{SYNC} (in) "Manual Synchronization. This pin initiates a manual synchronization and has an internal 40 k ohm pull-up resistor", 15 ~{CS} (in) "Serial Control Port Chip Select, Active Low. This pin has an internal 40 k ohm pull-up resistor.", 16 SCLK/SCL (in) "Serial Control Port Clock Signal for SPI Mode (SCLK) or I2C Mode (SCL). Data clock for serial programming. This pin has an internal 40 k ohm pull-down resistor in SPI mode but is high impedance in I2C mode.", 17 SDIO/SDA (io) "Serial Control Port Bidirectional Serial Data In/Out for SPI Mode (SDIO) or I2C Mode (SDA).", 18 SDO (hiz) "Serial Data Output. Use this pin to read data in 4-wire mode (high impedance in 3-wire mode). There is no internal pull-up/pull-down resistor on this pin.", 19 ~{OUT5} (hiz) "Complementary Clock Output 5. This pin can be configured as one side of a differential LVPECL/ LVDS/HSTL output or as a single-ended CMOS output.", 20 OUT5 (hiz) "Clock Output 5. This pin can be configured as one side of a differential LVPECL/LVDS/HSTL output or as a single-ended CMOS output.", 22 ~{OUT4} (hiz) "Complementary Clock Output 4. This pin can be configured as one side of a differential LVPECL/ LVDS/HSTL output or as a single-ended CMOS output.", 23 OUT4 (hiz) "Clock Output 4. This pin can be configured as one side of a differential LVPECL/LVDS/HSTL output or as a single-ended CMOS output.", 25 REF_TEST (in) "Test Input to PLL1 Phase Detector.", 26 ~{RESET} (in) "Digital Input, Active Low. Resets internal logic to default states. This pin has an internal 40 k ohm pull-up resistor.", 27 ~{PD} (in) "Chip Power-Down, Active Low. This pin has an internal 40 k ohm pull-up resistor.", 28 EEPROM_SEL (in) "EEPROM Select. Setting this pin high selects the register values stored in the internal EEPROM to be loaded at reset and/or power-up. Setting this pin low causes the AD9524 to load the hard- coded default register values at (See Datasheet)", 29 ~{OUT3} (hiz) "Complementary Clock Output 3. This pin can be configured as one side of a differential LVPECL/ LVDS/HSTL output or as a single-ended CMOS output.", 30 OUT3 (hiz) "Square Wave Clocking Output 3. This pin can be configured as one side of a differential LVPECL/ LVDS/HSTL output or as a single-ended CMOS output.", 32 ~{OUT2} (hiz) "Complementary Clock Output 2. This pin can be configured as one side of a differential LVPECL/ LVDS/HSTL output or as a single-ended CMOS output.", 33 OUT2 (hiz) "Clock Output 2. This pin can be configured as one side of a differential LVPECL/LVDS/HSTL output or as a single-ended CMOS output.", 35 STATUS1/SP1 (io) "Lock Detect and Other Status Signals (STATUS1)/I2C Address (SP1).", 36 STATUS0/SP0 (io) "Lock Detect and Other Status Signals (STATUS0)/I2C Address (SP0).", 37 ~{OUT1} (hiz) "Complementary Clock Output 1. This pin can be configured as one side of a differential LVPECL/ LVDS/HSTL output or as a single-ended CMOS output.", 38 OUT1 (hiz) "Clock Output 1. This pin can be configured as one side of a differential LVPECL/LVDS/HSTL output or as a single-ended CMOS output.", 40 ~{OUT0} (hiz) "Complementary Clock Output 0. This pin can be configured as one side of a differential LVPECL/ LVDS/HSTL output or as a single-ended CMOS output.", 41 OUT0 (hiz) "Clock Output 0. This pin can be configured as one side of a differential LVPECL/LVDS/HSTL output or as a single-ended CMOS output.", 43 ZD_IN (in) "External Zero Delay Clock Input. Along with Z\D\_\I\N\, this pin is the differential input for the PLL reference. Alternatively, this pin can be programmed as a single-ended 3.3 V CMOS input.", 44 ~{ZD_IN} (in) "Complementary External Zero Delay Clock Input. Along with ZD_IN, this pin is the differential input for the PLL reference. Alternatively, this pin can be programmed as a single-ended 3.3 V CMOS input.", 45 REF_SEL (in) "Reference Input Select. This pin has an internal 40 k ohm pull-down resistor.", 46 PLL1_OUT (hiz) "Single-Ended CMOS Output from PLL1. This pin has settings for weak and strong in Register 0x1BA, Bit 4 (see Table 51).", 47 LDO_PLL1 "1.8 V Internal LDO Regulator Decoupling Pin for PLL1. Connect a 0.47 uF decoupling capacitor from this pin to ground. Note that, for best performance, the LDO bypass capacitor must be placed in close proximity to the device."
part B pins: 11 VDD3_PLL2 (power) "3.3 V Supply for PLL2.", 14 VDD3_REF (power) "3.3 V Supply for Output Clock Drivers Reference.", 21 VDD3_OUT[4:5] (power) "3.3 V Supply for Output 4 and Output 5 Clock Drivers.", 24 VDD1.8_OUT[4:5] (power) "1.8 V Supply for Output 4 and Output 5 Clock Dividers.", 31 VDD3_OUT[2:3] (power) "3.3 V Supply Output 2 and Supply Output 3 Clock Drivers.", 34 VDD1.8_OUT[0:3] (power) "1.8 V Supply for Output 0, Output 1, Output 2, and Output 3 Clock Dividers.", 39 VDD3_OUT[0:1] (power) "3.3 V Supply Output 0 and Supply Output 1 Clock Drivers.", 42 VDD1.8_PLL2 (power) "1.8 V Supply for PLL2.", 48 VDD3_PLL1 (power) "3.3 V Supply PLL1. Use the same supply as VCXO.", 49 EP (power) "Exposed Paddle. The exposed paddle is the ground connection on the chip. It must be soldered to the analog ground of the PCB to ensure proper functionality and heat dissipation, noise, and mechanical strength benefits."